# Altium footprint library SamacSys.PcbLib: 37 footprints (part 1 of 3)
Each footprint in its own frame and in the unit in brackets; x right, y up, seen from the top. Pads: shape width x height; smd on the part's side, far side on the other; paste and mask are expansions set on the pad; w line width, h text height; cw(c..) or ccw(c..) is an arc to the next point about the centre after c.
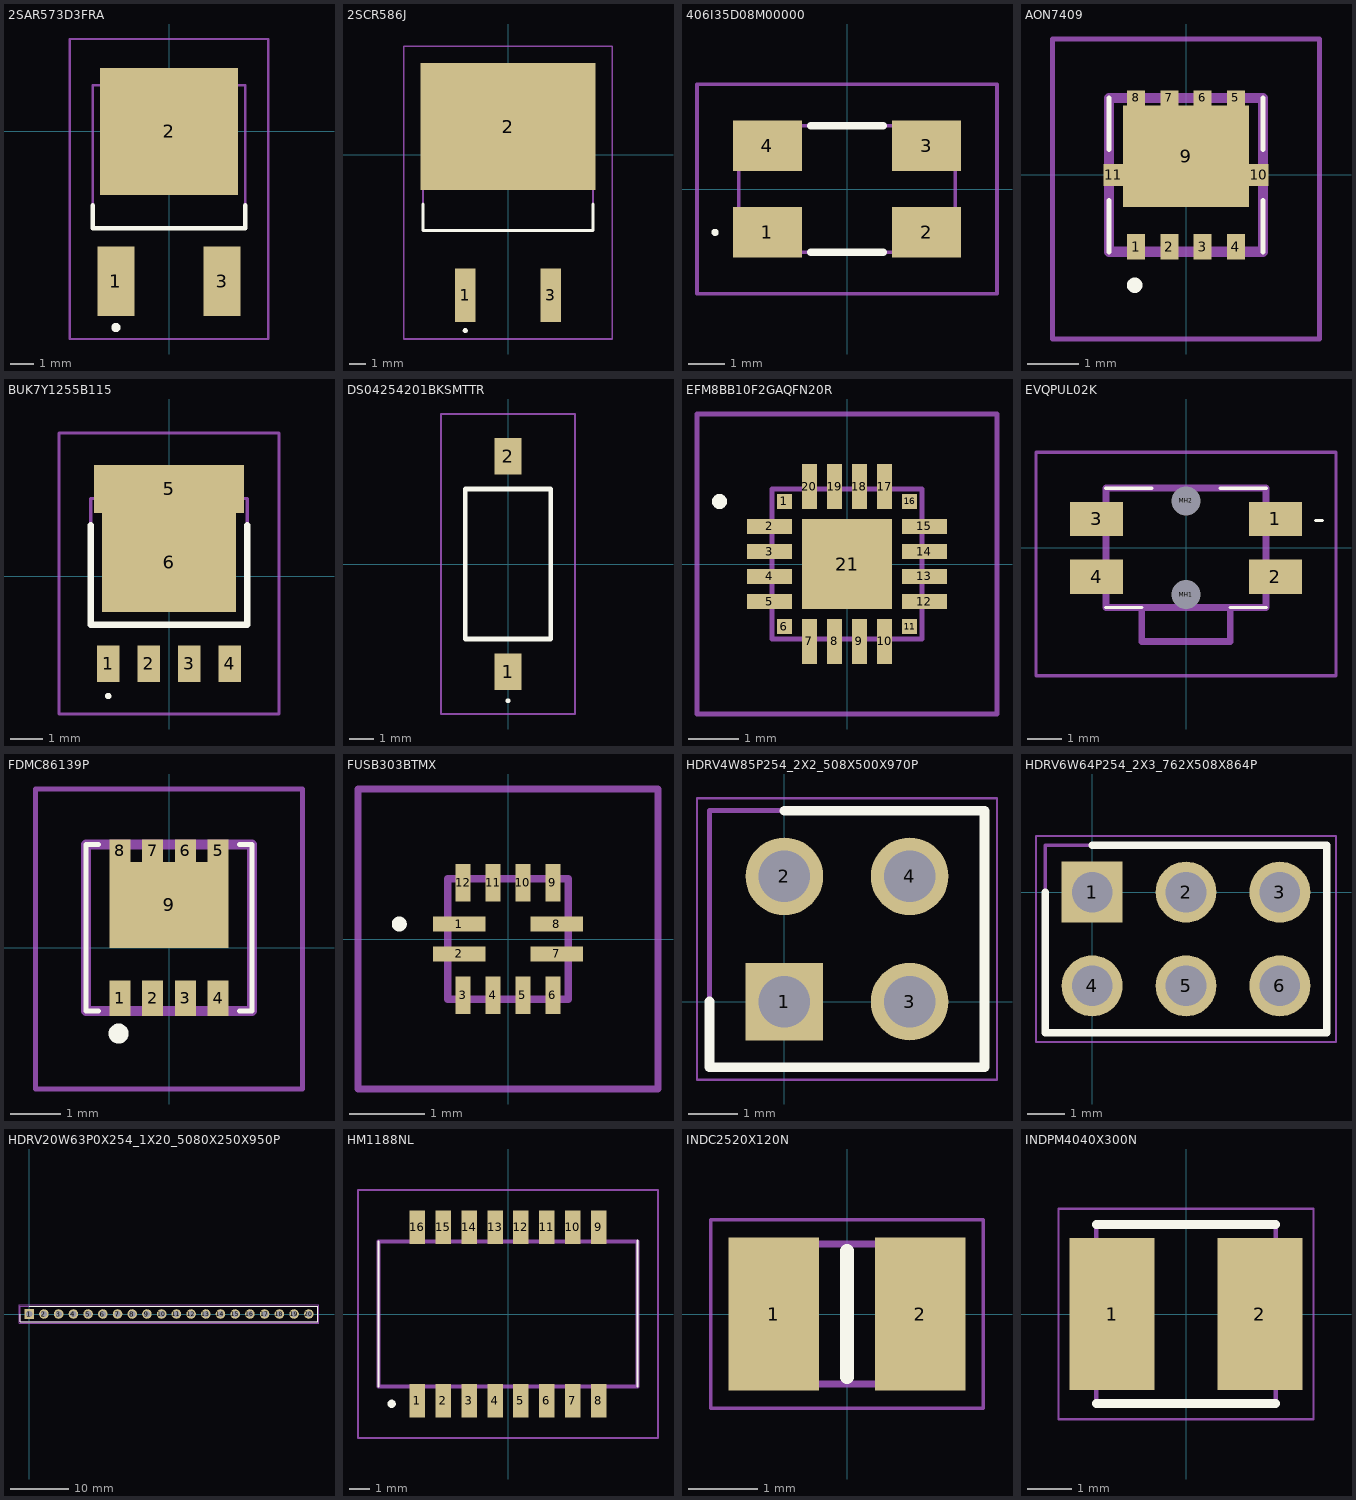
[diagram p0: the footprints below, top view; thin cyan lines are the x and y axes]

## 2SAR573D3FRA [mm]
pads (3):
  rect 1.6x3 smd: 1(-2.3,-6.5) 3(2.3,-6.5)
  rect 6x5.5 smd: 2(0,0)
Top Overlay:
  lines w0.2: -3.3,-3.2 -3.3,-4.2 3.3,-4.2 3.3,-3.2 ; -2.4,-8.5 ccw(c-2.3,-8.5) -2.2,-8.5 ccw(c-2.3,-8.5) -2.4,-8.5
Mechanical 13:
  lines w0.1: -3.3,-4.2 3.3,-4.2 3.3,2 -3.3,2 -3.3,-4.2
Mechanical 15:
  lines w0.1: -4.3,-9 4.3,-9 4.3,4 -4.3,4 -4.3,-9
3D body "2SCR582D3.stp": height 1.22, standoff -1.28, extent -3.3,-5.5 3.3,4.4

## 2SCR586J [mm]
pads (3):
  rect 1.23x3.2 smd: 1(-2.54,-8.35) 3(2.54,-8.35)
  rect 10.4x7.55 smd: 2(0,1.675)
Top Overlay:
  lines w0.2: -5.05,-2.95 -5.05,-4.5 5.05,-4.5 5.05,-2.95 ; -2.54,-10.5 cw(c-2.54,-10.45) -2.54,-10.4 ; -2.54,-10.5 ccw(c-2.54,-10.45) -2.54,-10.4 ; -2.54,-10.5 cw(c-2.54,-10.45) -2.54,-10.4
Mechanical 13:
  lines w0.1: -5.05,-4.5 -5.05,4.5 5.05,4.5 5.05,-4.5 -5.05,-4.5
Mechanical 15:
  lines w0.1: -6.2,-10.95 -6.2,6.45 6.2,6.45 6.2,-10.95 -6.2,-10.95

## 406I35D08M00000 [mm]
pads (4):
  rect 1.9x1.4 smd: 1(-2.2,-1.2) 2(2.2,-1.2) 3(2.2,1.2) 4(-2.2,1.2)
Top Overlay:
  lines w0.1: -3.7,-1.2 ccw(c-3.65,-1.2) -3.6,-1.2 ccw(c-3.65,-1.2) -3.7,-1.2
  lines w0.2: -1,-1.75 1,-1.75 ; -1,1.75 1,1.75
Mechanical 13:
  lines w0.1: -3,-1.75 3,-1.75 3,1.75 -3,1.75 -3,-1.75
Mechanical 15:
  lines w0.1: -4.15,-2.9 4.15,-2.9 4.15,2.9 -4.15,2.9 -4.15,-2.9
3D body "406I35D08M00000.stp": height 1.3, standoff 0, extent -3.01,-1.76 3.01,1.76

## AON7409 [mm]
pads (11):
  rect 0.35x0.5 smd: 1(-0.975,-1.4) 2(-0.325,-1.4) 3(0.325,-1.4) 4(0.975,-1.4)
  rect 0.35x0.3 smd: 5(0.975,1.5) 6(0.325,1.5) 7(-0.325,1.5) 8(-0.975,1.5)
  rect 2.45x1.98 smd: 9(0,0.36)
  rect 0.38x0.43 smd: 10(1.415,0) 11(-1.415,0)
Top Overlay:
  lines w0.1: -1.5,-1.5 -1.5,-0.5 -1.5,-1.5 ; -1.5,0.5 -1.5,1.5 -1.5,0.5 ; 1.5,-1.5 1.5,-0.5 1.5,-1.5 ; 1.5,0.5 1.5,1.5 1.5,0.5
  lines w0.2: -1,-2.2 cw(c-1,-2.15) -1,-2.1 ; -1,-2.2 ccw(c-1,-2.15) -1,-2.1 ; -1,-2.2 cw(c-1,-2.15) -1,-2.1
Mechanical 13:
  lines w0.2: -1.5,-1.5 -1.5,1.5 1.5,1.5 1.5,-1.5 -1.5,-1.5
Mechanical 15:
  lines w0.1: -2.605,-3.2 -2.605,2.65 2.605,2.65 2.605,-3.2 -2.605,-3.2
3D body "AON7409.stp": height 1, standoff 0, extent -1.567,-1.615 1.567,1.62

## BUK7Y1255B115 [mm]
pads (6):
  rect 0.7x1.15 smd: 1(-1.905,-2.737) 2(-0.635,-2.737) 3(0.635,-2.737) 4(1.905,-2.737)
  rect 4.7x1.5 smd: 5(0,2.738)
  rect 4.2x3.1 smd: 6(0,0.438)
Top Overlay:
  lines w0.1: -1.905,-3.8 ccw(c-1.905,-3.75) -1.905,-3.7 ccw(c-1.905,-3.75) -1.905,-3.8
  lines w0.2: -2.45,1.6 -2.45,-1.512 2.45,-1.512 2.45,1.6
Mechanical 13:
  lines w0.1: -2.45,-1.512 2.45,-1.512 2.45,2.438 -2.45,2.438 -2.45,-1.512
Mechanical 15:
  lines w0.1: -3.45,-4.313 3.45,-4.313 3.45,4.488 -3.45,4.488 -3.45,-4.313
3D body "PSMN1R4-40YLDX.stp": height 0.75, standoff -0.25, extent -2.405,-2.56 2.405,3.55

## DS04254201BKSMTTR [mm]
pads (2):
  rect 1.1x1.5 smd: 1(0,-4.45) 2(0,4.45)
Top Overlay:
  lines w0.1: 0,-5.7 cw(c0,-5.65) 0,-5.6 cw(c0,-5.65) 0,-5.7
  lines w0.2: -1.77,-3.1 1.77,-3.1 1.77,3.1 -1.77,3.1 -1.77,-3.1
Mechanical 13:
  lines w0.1: -1.77,-3.1 1.77,-3.1 1.77,3.1 -1.77,3.1 -1.77,-3.1
Mechanical 15:
  lines w0.1: -2.77,-6.2 2.77,-6.2 2.77,6.2 -2.77,6.2 -2.77,-6.2
3D body "DS04-254-2-01BK-SMT-TR.stp": height 3.96, standoff -0.04, extent -1.773,-4.953 1.767,4.947

## EFM8BB10F2GAQFN20R [mm]
pads (21):
  rect 0.3x0.3 smd: 1(-1.25,1.25) 6(-1.25,-1.25) 11(1.25,-1.25) 16(1.25,1.25)
  rect 0.9x0.3 smd: 2(-1.55,0.75) 3(-1.55,0.25) 4(-1.55,-0.25) 5(-1.55,-0.75) 12(1.55,-0.75) 13(1.55,-0.25) 14(1.55,0.25) 15(1.55,0.75)
  rect 0.3x0.9 smd: 7(-0.75,-1.55) 8(-0.25,-1.55) 9(0.25,-1.55) 10(0.75,-1.55) 17(0.75,1.55) 18(0.25,1.55) 19(-0.25,1.55) 20(-0.75,1.55)
  rect 1.8x1.8 smd: 21(0,0)
Top Overlay:
  lines w0.2: -2.6,1.25 ccw(c-2.55,1.25) -2.5,1.25 ; -2.6,1.25 cw(c-2.55,1.25) -2.5,1.25 ; -2.6,1.25 ccw(c-2.55,1.25) -2.5,1.25
Mechanical 13:
  lines w0.1: -1.5,-1.5 1.5,-1.5 1.5,1.5 -1.5,1.5 -1.5,-1.5
Mechanical 15:
  lines w0.1: -3,-3 3,-3 3,3 -3,3 -3,-3
3D body "EFM8BB10F2G-A-QFN20R.stp": height 0.9, standoff 0, extent -1.5,-1.5 1.5,1.5

## EVQPUL02K [mm]
pads (6):
  rect 1.55x1 smd: 1(2.625,0.85) 2(2.625,-0.85) 3(-2.625,0.85) 4(-2.625,-0.85)
  round 0.425 hole 0.85 unplated: MH1(0,-1.375) MH2(0,1.375)
Top Overlay:
  lines w0.1: -2.35,-1.75 -1.3,-1.75 ; -2.35,1.75 -1,1.75 ; 1,1.75 2.35,1.75 ; 1.3,-1.75 2.35,-1.75 ; 3.8,0.8 4,0.8 3.8,0.8
Mechanical 13:
  lines w0.2: -1.3,-1.75 -1.3,-2.75 1.3,-2.75 1.3,-1.8 ; -2.35,-1.75 -2.35,1.75 2.35,1.75 2.35,-1.75 -2.35,-1.75
Mechanical 15:
  lines w0.1: -4.4,-3.75 -4.4,2.8 4.4,2.8 4.4,-3.75 -4.4,-3.75

## FDMC86139P [mm]
pads (9):
  rect 0.42x0.7 smd: 1(-0.975,-1) 2(-0.325,-1) 3(0.325,-1) 4(0.975,-1)
  rect 0.42x0.45 smd: 5(0.975,1.925) 6(0.325,1.925) 7(-0.325,1.925) 8(-0.975,1.925)
  rect 2.37x1.7 smd: 9(0,0.85)
Top Overlay:
  lines w0.1: -1.4,-1.25 -1.65,-1.25 -1.65,2.05 -1.4,2.05 ; 1.4,-1.25 1.65,-1.25 1.65,2.05 1.4,2.05
  lines w0.2: -1.1,-1.7 cw(c-1,-1.7) -0.9,-1.7 cw(c-1,-1.7) -1.1,-1.7
Mechanical 13:
  lines w0.2: -1.65,-1.25 1.65,-1.25 1.65,2.05 -1.65,2.05 -1.65,-1.25
Mechanical 15:
  lines w0.1: -2.65,-2.8 2.65,-2.8 2.65,3.15 -2.65,3.15 -2.65,-2.8
3D body "FDMC8327L.stp": height 0.85, standoff 0, extent -1.65,-1.25 1.65,2.05

## FUSB303BTMX [mm]
pads (12):
  rect 0.7x0.2 smd: 1(-0.65,0.2) 2(-0.65,-0.2) 7(0.65,-0.2) 8(0.65,0.2)
  rect 0.2x0.5 smd: 3(-0.6,-0.75) 4(-0.2,-0.75) 5(0.2,-0.75) 6(0.6,-0.75) 9(0.6,0.75) 10(0.2,0.75) 11(-0.2,0.75) 12(-0.6,0.75)
Top Overlay:
  lines w0.1: -1.5,0.2 cw(c-1.45,0.2) -1.4,0.2 cw(c-1.45,0.2) -1.5,0.2
Mechanical 13:
  lines w0.1: -0.8,-0.8 0.8,-0.8 0.8,0.8 -0.8,0.8 -0.8,-0.8
Mechanical 15:
  lines w0.1: -2,-2 2,-2 2,2 -2,2 -2,-2
3D body "FUSB303BTMX.stp": height 0.5, standoff 0, extent -0.8,-0.8 0.8,0.8

## HDRV4W85P254_2X2_508X500X970P [mm]
pads (4):
  rect 1.575x1.575 hole 1.05: 1(0,0)
  round 1.575 hole 1.05: 2(0,2.54) 3(2.54,0) 4(2.54,2.54)
Top Overlay:
  lines w0.2: -1.52,0 -1.52,-1.33 4.06,-1.33 4.06,3.87 0,3.87
Mechanical 13:
  lines w0.1: -1.52,-1.33 4.06,-1.33 4.06,3.87 -1.52,3.87 -1.52,-1.33
Mechanical 15:
  lines w0.05: -1.77,-1.58 4.31,-1.58 4.31,4.12 -1.77,4.12 -1.77,-1.58
3D body "826632-2.stp": height 9.41, standoff -3.29, extent -1.27,-1.23 3.81,3.77

## HDRV6W64P254_2X3_762X508X864P [mm]
pads (6):
  rect 1.65x1.65 hole 1.1: 1(0,0)
  round 1.65 hole 1.1: 2(2.54,0) 3(5.08,0) 4(0,-2.54) 5(2.54,-2.54) 6(5.08,-2.54)
Top Overlay:
  lines w0.2: -1.27,0 -1.27,-3.81 6.35,-3.81 6.35,1.27 0,1.27
Mechanical 13:
  lines w0.1: -1.27,-3.81 6.35,-3.81 6.35,1.27 -1.27,1.27 -1.27,-3.81
Mechanical 15:
  lines w0.05: -1.52,-4.06 6.6,-4.06 6.6,1.52 -1.52,1.52 -1.52,-4.06
3D body "M20-9980345.stp": height 8.64, standoff -3, extent -1.27,-3.81 6.35,1.27

## HDRV20W63P0X254_1X20_5080X250X950P [mm]
pads (20):
  rect 1.65x1.65 hole 1.1: 1(0,0)
  round 1.65 hole 1.1: 2(2.54,0) 3(5.08,0) 4(7.62,0) 5(10.16,0) 6(12.7,0) 7(15.24,0) 8(17.78,0) 9(20.32,0) 10(22.86,0) 11(25.4,0) 12(27.94,0) 13(30.48,0) 14(33.02,0) 15(35.56,0) 16(38.1,0) 17(40.64,0) 18(43.18,0) 19(45.72,0) 20(48.26,0)
Top Overlay:
  lines w0.2: -1.52,0 -1.52,-1.35 49.78,-1.35 49.78,1.35 0,1.35
Mechanical 13:
  lines w0.1: -1.52,-1.35 -1.52,1.35 49.78,1.35 49.78,-1.35 -1.52,-1.35
Mechanical 15:
  lines w0.05: -1.77,-1.6 -1.77,1.6 50.03,1.6 50.03,-1.6 -1.77,-1.6
3D body "2-826629-0.stp": height 9.5, standoff -3.2, extent -1.27,-1.25 49.53,1.25

## HM1188NL [mil]
pads (16):
  rect 30x65 smd: 1(-175,-167.52) 2(-125,-167.52) 3(-75,-167.52) 4(-25,-167.52) 5(25,-167.52) 6(75,-167.52) 7(125,-167.52) 8(175,-167.52) 9(175,167.52) 10(125,167.52) 11(75,167.52) 12(25,167.52) 13(-25,167.52) 14(-75,167.52) 15(-125,167.52) 16(-175,167.52)
Top Overlay:
  lines w3.94: -250,-140 -250,140 ; 250,-140 250,141.73
  lines w7.87: -228.35,-173.23 cw(c-224.41,-173.23) -220.47,-173.23 cw(c-224.41,-173.23) -228.35,-173.23
Mechanical 13:
  lines w7.87: -250,-140 -250,140 250,140 250,-140 -250,-140
Mechanical 15:
  lines w3.94: -289.37,-239.37 -289.37,239.37 289.37,239.37 289.37,-239.37 -289.37,-239.37
3D body "HM1188NL.stp": height 238.94, standoff 0, extent -250,-197.02 250,197.02

## INDC2520X120N [mm]
pads (2):
  rect 1.3x2.2 smd: 1(-1.05,0) 2(1.05,0)
Top Overlay:
  lines w0.2: 0,-0.9 0,0.9
Mechanical 13:
  lines w0.1: -1.25,-1 1.25,-1 1.25,1 -1.25,1 -1.25,-1
Mechanical 15:
  lines w0.05: -1.95,-1.35 1.95,-1.35 1.95,1.35 -1.95,1.35 -1.95,-1.35
3D body "TMS252012ALM-1R0MTAA.stp": height 1.2, standoff 0, extent -1.25,-1 1.25,1

## INDPM4040X300N [mm]
pads (2):
  rect 1.9x3.4 smd: 1(-1.65,0) 2(1.65,0)
Top Overlay:
  lines w0.2: -2,-2 2,-2 ; -2,2 2,2
Mechanical 13:
  lines w0.1: -2,-2 -2,2 2,2 2,-2 -2,-2
Mechanical 15:
  lines w0.05: -2.85,-2.35 -2.85,2.35 2.85,2.35 2.85,-2.35 -2.85,-2.35
3D body "FNR4030S681MT.stp": height 3, standoff 0, extent -2,-2 2,2